# EAGLE library part 739-340 (library con-wago_739)
Serie 739, Klemmenleiste für Leiterplatten 1 Lötstift/Pol / Series 739, PCB terminal strip 1 solder pin/pole Polzahl / Pole No.: 10 Rastermaß / Pitch: 3.81 mm Bemessungsspannung / Rated Voltage: 320 V Nennstrom / Nominal Current: 17.5 A Leiterquerschnitt / Conductor Size: 0.08 - 1.5 mm² Anschlusstechnik / Connection Technology: CAGE CLAMP® Lötstiftlänge: / Solder Pin Length: 3.4 mm Leitereinführung (zur Platine) / Conductor entry angle (to PCB): 90 ° Farbe / Color: orange / orange Stand: 01.01.2012. Die jeweils aktuellen Daten zu diesem Artikel finden Sie in unserem Produktkatalog, den Sie unter www.wago.com einsehen können. As of: 01/01/2012. Please find the newest data for this article in our product catalogue, which can be viewed under www.wago.com.
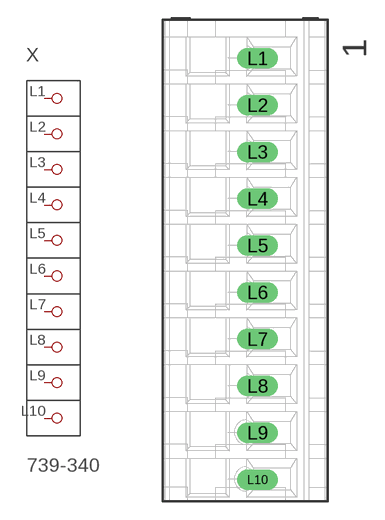
[diagram p78: symbol with the pads of P-739-340; footprint P-739-340]

Designator prefix X

## 739-340  [P-739-340]
L1  P1
L2  P2
L3  P3
L4  P4
L5  P5
L6  P6
L7  P7
L8  P8
L9  P9
L10  P10

## Footprint P-739-340 (pad centres in mm)
drill 1.1 long: L1 1,16.395; L2 1,12.585; L3 1,8.775; L4 1,4.965; L5 1,1.155; L6 1,-2.655; L7 1,-6.465; L8 1,-10.275; L9 1,-14.085; L10 1,-17.895